# EAGLE library part NUCLEO-L452RE (library NUCLEO-L452RE)
No existe un outline (Layer Dimension) para esta librería. En su lugar se utilizó una referencia en tDocu. Al momento de diseñar la tarjeta, el Dimension debe ser dibujado según los requerimientos del usuario, o simplemente copiar los contenidos del tDocu en Dimensions.
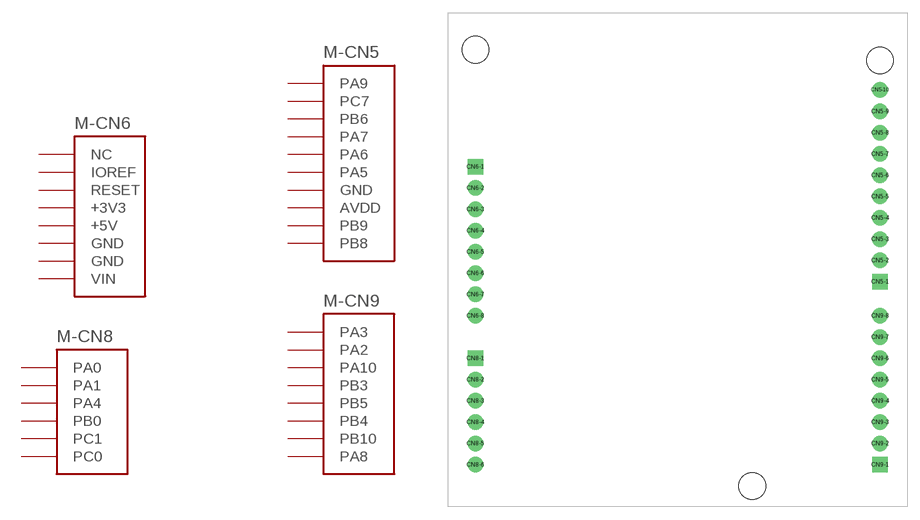
[diagram p0: symbol with the pads of NUCLEO-64; footprint NUCLEO-64]

Designator prefix M; gates -CN6=CN6 -CN8=CN8 -CN9=CN9 -CN5=CN5

## NUCLEO-L452RE  [NUCLEO-64]
CN5-1  -CN5:PA9
CN5-2  -CN5:PC7
CN5-3  -CN5:PB6
CN5-4  -CN5:PA7
CN5-5  -CN5:PA6
CN5-6  -CN5:PA5
CN5-7  -CN5:GND  pwr
CN5-8  -CN5:AVDD  pwr
CN5-9  -CN5:PB9
CN5-10  -CN5:PB8
CN6-1  -CN6:NC  nc
CN6-2  -CN6:IOREF  pwr
CN6-3  -CN6:RESET  in
CN6-4  -CN6:+3V3  pwr
CN6-5  -CN6:+5V  pwr
CN6-6  -CN6:GND  pwr
CN6-7  -CN6:GND  pwr
CN6-8  -CN6:VIN  pwr
CN8-1  -CN8:PA0
CN8-2  -CN8:PA1
CN8-3  -CN8:PA4
CN8-4  -CN8:PB0
CN8-5  -CN8:PC1
CN8-6  -CN8:PC0
CN9-1  -CN9:PA3
CN9-2  -CN9:PA2
CN9-3  -CN9:PA10
CN9-4  -CN9:PB3
CN9-5  -CN9:PB5
CN9-6  -CN9:PB4
CN9-7  -CN9:PB10
CN9-8  -CN9:PA8

## Footprint NUCLEO-64 (pad centres in mm)
drill 1.1 pad 1.85 square: CN5-1 59.13,24.884; CN6-1 10.87,38.6; CN8-1 10.87,15.74; CN9-1 59.13,3.04
drill 1.1 pad 1.85: CN5-2 59.13,27.424; CN5-3 59.13,29.964; CN5-4 59.13,32.504; CN5-5 59.13,35.044; CN5-6 59.13,37.584; CN5-7 59.13,40.124; CN5-8 59.13,42.664; CN5-9 59.13,45.204; CN5-10 59.13,47.744; CN6-2 10.87,36.06; CN6-3 10.87,33.52; CN6-4 10.87,30.98; CN6-5 10.87,28.44; CN6-6 10.87,25.9; CN6-7 10.87,23.36; CN6-8 10.87,20.82; CN8-2 10.87,13.2; CN8-3 10.87,10.66; CN8-4 10.87,8.12; CN8-5 10.87,5.58; CN8-6 10.87,3.04; CN9-2 59.13,5.58; CN9-3 59.13,8.12; CN9-4 59.13,10.66; CN9-5 59.13,13.2; CN9-6 59.13,15.74; CN9-7 59.13,18.28; CN9-8 59.13,20.82
hole 3.175 at 59.13,51.3
hole 3.175 at 10.87,52.57
hole 3.175 at 43.89,0.5